# Altium integrated library M7 Diode DO-214AC.IntLib: 1 symbol
Pins are listed as number, name and electrical type; pins without a type are passive.

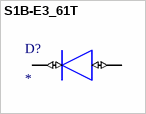
[diagram p0: symbol S1B-E3_61T]

## S1B-E3_61T
designator D?
Diode Standard 100 V 1A Surface Mount DO-214AC (SMA); MF: Vishay Semiconductor; MP: S1B-E3/61T; SnapEDA_Link: https://www.snapeda.com/parts/S1B-E3/61T/Vishay/view-part/?ref=snap; Package: DO-214 Vishay Semiconductor; Value: *; Check_prices: https://www.snapeda.com/parts/S1B-E3/61T/Vishay/view-part/?ref=eda
footprint DIOM5127X229N
pins: 1 K (io), 2 A (io)